# Altium schematic symbol library VLMO20J2M1-GS08.SchLib: 1 symbol
Pins are listed as number, name and electrical type; pins without a type are passive.

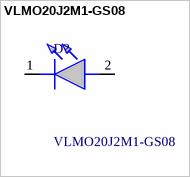
[diagram p0: symbol VLMO20J2M1-GS08]

## VLMO20J2M1-GS08
designator D?
Standard LEDs - SMD Orange Clr Non-Diff; Manufacturer_Name: Vishay; Geometry.Height: 1.4mm; Mouser Part Number: 78-VLMO20J2M1; Mouser Price/Stock: https://www.mouser.co.uk/ProductDetail/Vishay-Semiconductors/VLMO20J2M1-GS08?qs=F8HfwHd0zjc6O1qXGyFshQ%3D%3D; Manufacturer_Part_Number: VLMO20J2M1-GS08; Datasheet Link: https://www.vishay.com/docs/81339/vlms20.pdf
footprint LEDM2214X140N
pins: 1 K, 2 A